# Altium footprint library Components - 17.03.24 - 18.14.PcbLib: 1 footprints
Each footprint in its own frame and in the unit in brackets; x right, y up, seen from the top. Pads: shape width x height; smd on the part's side, far side on the other; paste and mask are expansions set on the pad; w line width, h text height; cw(c..) or ccw(c..) is an arc to the next point about the centre after c.
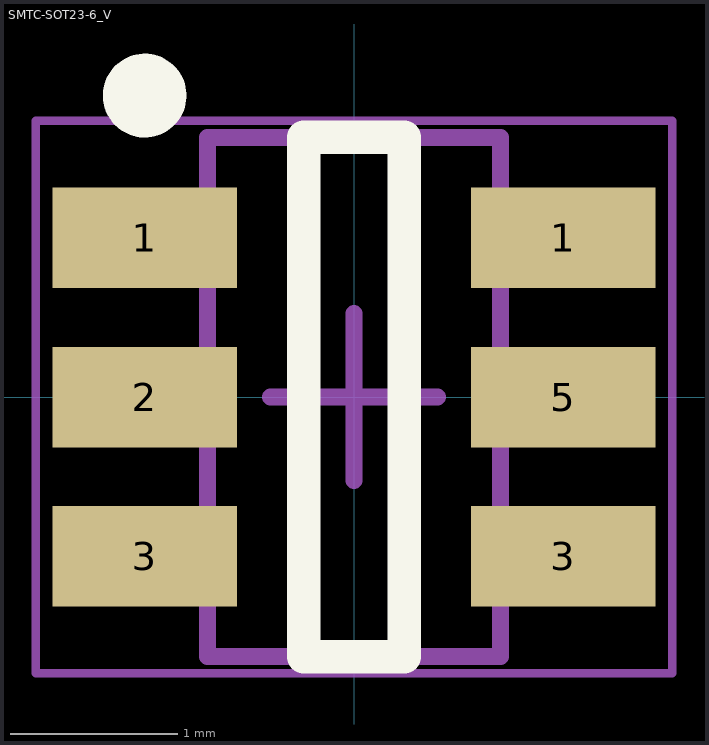
[diagram p0: the footprint, top view; thin cyan lines are the x and y axes]

## SMTC-SOT23-6_V [mm] "SOT23, 6-Leads, Body 3.15x1.7mm, Pitch 0.95mm"
height 1.45
pads (6):
  rect 1.1x0.6 smd: 1(-1.25,0.95) 1(1.25,0.95) 2(-1.25,0) 3(-1.25,-0.95) 3(1.25,-0.95) 5(1.25,0)
Top Overlay:
  circle w0.25: c-1.25,1.8 r0.125
  lines w0.2: -0.3,-1.55 0.3,-1.55 0.3,1.55 -0.3,1.55 -0.3,-1.55
Mechanical 13:
  lines w0.1: -0.875,-1.55 -0.875,1.55 0.875,1.55 0.875,-1.55 -0.875,-1.55
Mechanical 15:
  lines w0.05: -1.9,-1.65 -1.9,1.65 1.9,1.65 1.9,-1.65 -1.9,-1.65
  lines w0.1: -0.5,0 0.5,0 ; 0,-0.5 0,0.5
3D body "User Library-TSOP-6.STEP": height 1, standoff 0, extent -1.35,-1.5 1.35,1.5